# Altium schematic symbol library FH19SC-32S-0.5SH_09_.SchLib: 1 symbol
Pins are listed as number, name and electrical type; pins without a type are passive.

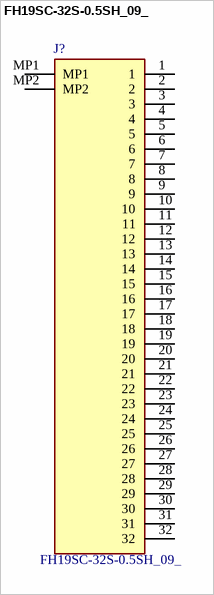
[diagram p0: symbol FH19SC-32S-0.5SH_09_]

## FH19SC-32S-0.5SH_09_
designator J?
FFC & FPC Connectors 32P SMT HORIZONTAL .5MM PITCH; Manufacturer_Name: Hirose; Manufacturer_Part_Number: FH19SC-32S-0.5SH(09); Geometry.Height: 1.6mm; Mouser Part Number: 798-FH19SC32S05SH09; Mouser Price/Stock: https://www.mouser.co.uk/ProductDetail/Hirose-Connector/FH19SC-32S-0.5SH09?qs=vnk2wBG9e14Nd84%2F2PB3lQ%3D%3D; Datasheet Link: https://www.hirose.com/en/product/document?clcode=CL0580-0514-7-09&productname=FH19SC-32S-0.5SH(09)&series=FH19C__FH19SC&documenttype=2DDrawing&lang=en&documentid=0000990627
footprint FH19SC32S05SH09
pins: 1, 2, 3, 4, 5, 6, 7, 8, 9, 10, 11, 12, 13, 14, 15, 16, 17, 18, 19, 20, 21, 22, 23, 24, 25, 26, 27, 28, 29, 30, 31, 32, MP1, MP2